# EAGLE library part ERM2004-2 (library displays)
ERM2004-2 Series Character Module Datasheet
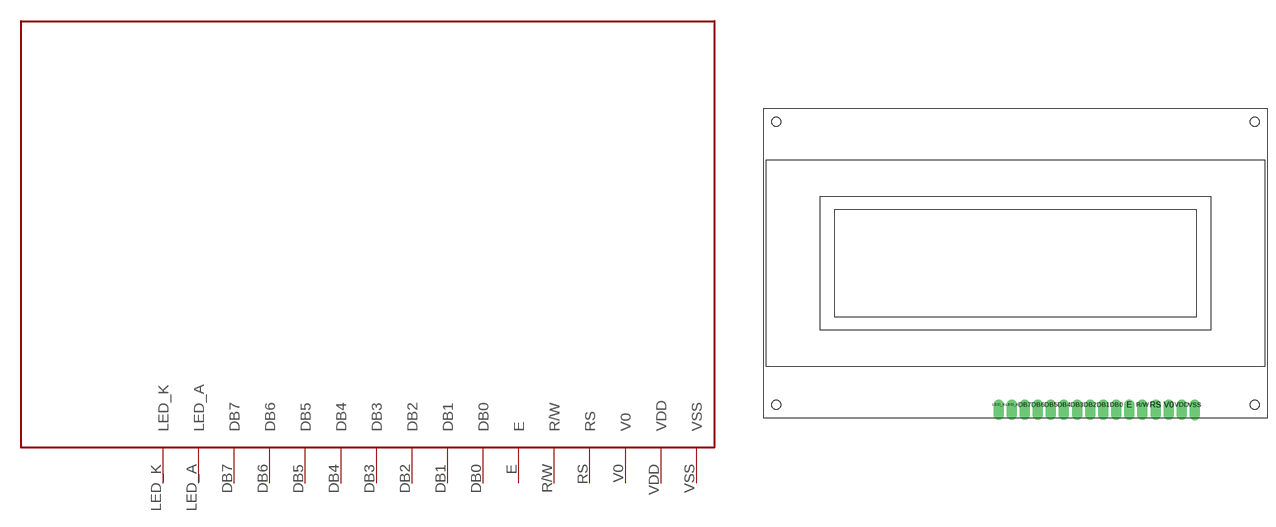
[diagram p0: symbol with the pads of ERM2004-2-PINS-PTH; footprint ERM2004-2-PINS-PTH]

Designator prefix -

## ERM2004-2  [ERM2004-2-PINS-PTH]
DB0  DB0
DB1  DB1
DB2  DB2
DB3  DB3
DB4  DB4
DB5  DB5
DB6  DB6
DB7  DB7
E  E
LED_A  LED_A  pwr
LED_K  LED_K  pwr
R/W  R/W
RS  RS
V0  V0  pwr
VDD  VDD  pwr
VSS  VSS  pwr

## Footprint ERM2004-2-PINS-PTH (pad centres in mm)
drill 1 pad 2 offset: DB0 19.05,-26.67; DB1 16.51,-26.67; DB2 13.97,-26.67; DB3 11.43,-26.67; DB4 8.89,-26.67; DB5 6.35,-26.67; DB6 3.81,-26.67; DB7 1.27,-26.67; E 21.59,-26.67; LED_A -1.27,-26.67; LED_K -3.81,-26.67; R/W 24.13,-26.67; RS 26.67,-26.67; V0 29.21,-26.67; VDD 31.75,-26.67; VSS 34.29,-26.71
hole 1.74 at 45.97,-26.71
hole 1.74 at 45.97,28.29
hole 1.74 at -47.03,28.29
hole 1.74 at -47.03,-26.71